# Altium schematic symbol library Passive#csv.SchLib: 35 symbols
Pins are listed as number, name and electrical type; pins without a type are passive.

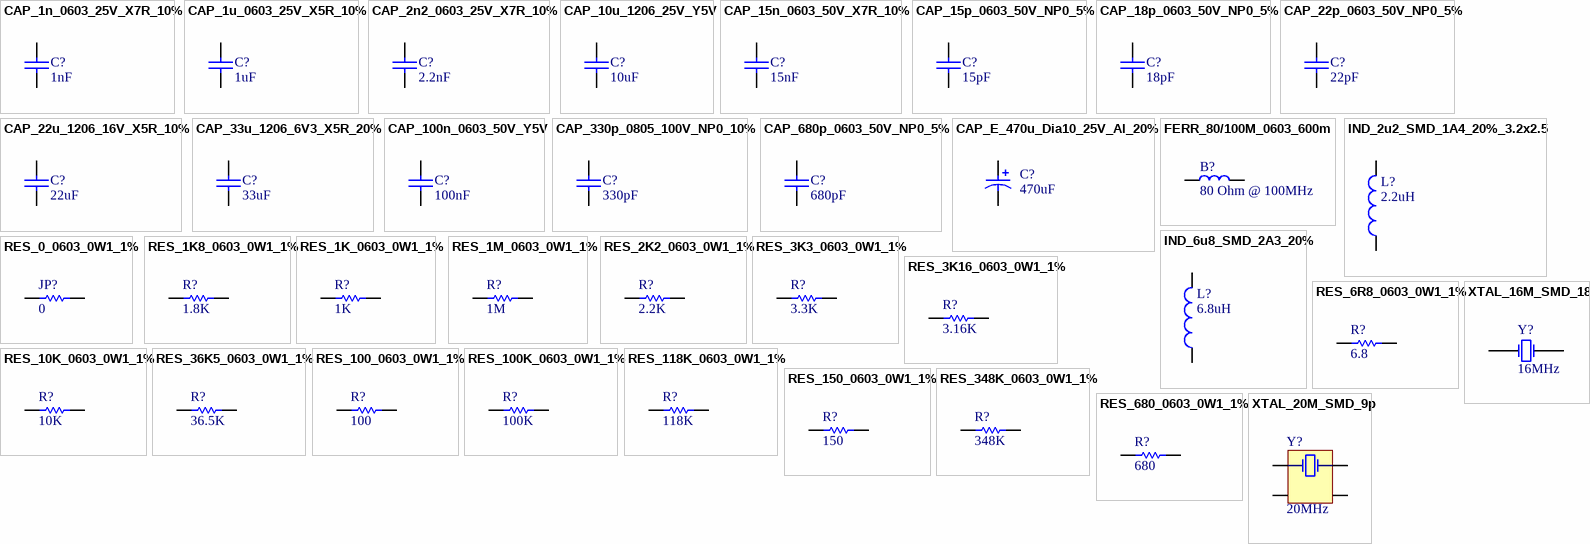
[diagram p0: symbols CAP_1n_0603_25V_X7R_10% to XTAL_20M_SMD_9p]

## CAP_1n_0603_25V_X7R_10%
designator C?, comment 1nF
CAP CER 1000PF 25V 10% X7R 0603; Manufacturer: Kemet; Manufacturer Part Number: C0603C102K3RACTU; Name: CAP_1n_0603_25V_X7R_10%; Value: 1nF; Supplier 1: Digi-Key; Supplier Part Number 1: 399-7834-1-ND
footprint CAPC1608L
pins: 1, 2

## CAP_1u_0603_25V_X5R_10%
designator C?, comment 1uF
CAP CER 1UF 25V 10% X5R 0603; Manufacturer Part Number: TMK107BJ105KA-T; Name: CAP_1u_0603_25V_X5R_10%; Value: 1uF; Supplier 1: Digi-Key; Supplier Part Number 1: 587-1248-1-ND
footprint CAPC1608L
pins: 1, 2

## CAP_2n2_0603_25V_X7R_10%
designator C?, comment 2.2nF
CAP CER 2200PF 25V 10% X7R 0603; Manufacturer: Kemet; Manufacturer Part Number: C0603C222K3RACTU; Name: CAP_2n2_0603_25V_X7R_10%; Value: 2.2nF; Supplier 1: Digi-Key; Supplier Part Number 1: 399-9040-1-ND
footprint CAPC1608L
pins: 1, 2

## CAP_10u_1206_25V_Y5V
designator C?, comment 10uF
CAP CER 10UF 25V Y5V 1206; Manufacturer Part Number: TMK316F106ZL-T; Name: CAP_10u_1206_25V_Y5V; Value: 10uF; Supplier 1: Digi-Key; Supplier Part Number 1: 587-1353-1-ND
footprint CAPC3216L
pins: 1, 2

## CAP_15n_0603_50V_X7R_10%
designator C?, comment 15nF
CAP CER 0.015UF 50V 10% X7R 0603; Manufacturer Part Number: CL10B153KB8SFNC; Name: CAP_15n_0603_50V_X7R_10%; Value: 15nF; Supplier 1: Digi-Key; Supplier Part Number 1: 1276-1967-1-ND
footprint CAPC1608L
pins: 1, 2

## CAP_15p_0603_50V_NP0_5%
designator C?, comment 15pF
CAP CER 15PF 50V 5% NP0 0603; Manufacturer: Samsung Electro-Mechanics America, Inc; Manufacturer Part Number: CL10C150JB8NCNC; Name: CAP_15p_0603_50V_NP0_5%; Value: 15pF; Supplier 1: Digi-Key; Supplier Part Number 1: 1276-2190-1-ND
footprint CAPC1608L
pins: 1, 2

## CAP_18p_0603_50V_NP0_5%
designator C?, comment 18pF
CAP CER 18PF 50V 5% NP0 0603; Manufacturer Part Number: C0603C180J5GACTU; Name: CAP_18p_0603_50V_NP0_5%; Value: 18pF; Supplier 1: Digi-Key; Supplier Part Number 1: 399-1052-1-ND
footprint CAPC1608L
pins: 1, 2

## CAP_22p_0603_50V_NP0_5%
designator C?, comment 22pF
CAP CER 22PF 50V 5% NP0 0603; Manufacturer Part Number: CL10C220JB8NCNC; Name: CAP_22p_0603_50V_NP0_5%; Value: 22pF; Supplier 1: Digi-Key; Supplier Part Number 1: 1276-2227-1-ND
footprint CAPC1608L
pins: 1, 2

## CAP_22u_1206_16V_X5R_10%
designator C?, comment 22uF
CAP CER 22UF 16V 10% X5R 1206; Manufacturer: Samsung Electro-Mechanics America, Inc; Manufacturer Part Number: CL31A226KOCLFNC; Name: CAP_22u_1206_16V_X5R_10%; Value: 22uF; Supplier 1: Digi-Key; Supplier Part Number 1: 1276-2725-1-ND
footprint CAPC3216L
pins: 1, 2

## CAP_33u_1206_6V3_X5R_20%
designator C?, comment 33uF
CAP CER 33UF 6.3V 20% X5R 1206; Manufacturer Part Number: C3216X5R0J336M130AC; Name: CAP_33u_1206_6V3_X5R_20%; Value: 33uF; Supplier 1: Digi-Key; Supplier Part Number 1: 445-4060-1-ND
footprint CAPC3216L
pins: 1, 2

## CAP_100n_0603_50V_Y5V
designator C?, comment 100nF
CAP CER 0.1UF 50V Y5V 0603; Manufacturer Part Number: CC0603ZRY5V9BB104; Name: CAP_100n_0603_50V_Y5V; Value: 100nF; Supplier 1: Digi-Key; Supplier Part Number 1: 311-1343-1-ND
footprint CAPC1608L
pins: 1, 2

## CAP_330p_0805_100V_NP0_10%
designator C?, comment 330pF
CAP CER 330PF 100V 5% NP0 0805; Manufacturer Part Number: CL21C331JCANNNC; Name: CAP_330p_0805_100V_NP0_10%; Value: 330pF; Supplier 1: Digi-Key; Supplier Part Number 1: 1276-2646-1-ND
footprint CAPC2012L
pins: 1, 2

## CAP_680p_0603_50V_NP0_5%
designator C?, comment 680pF
CAP CER 680PF 50V 5% NP0 0603; Manufacturer: Samsung Electro-Mechanics America, Inc; Manufacturer Part Number: CL10C681JB8NFNC; Name: CAP_680p_0603_50V_NP0_5%; Value: 680pF; Supplier 1: Digi-Key; Supplier Part Number 1: 1276-2329-1-ND
footprint CAPC1608L
pins: 1, 2

## CAP_E_470u_Dia10_25V_Al_20%
designator C?, comment 470uF
CAP ALUM 470UF 25V 20% SMD; Manufacturer: Nichicon; Manufacturer Part Number: UCW1E471MNL1GS; Name: CAP_E_470u_Dia10_25V_Al_20%; Value: 470uF; Supplier 1: Digi-Key; Supplier Part Number 1: 493-9424-1-ND
footprint CAP_RADIAL-CAN_SMD_M10
pins: 1, 2
1 alternate drawing of the same symbol

## FERR_80/100M_0603_600m
designator B?, comment 80 Ohm @ 100MHz
FERRITE CHIP 80 OHM 600MA 0603; Manufacturer: Samsung Electro-Mechanics America, Inc; Manufacturer Part Number: CIM10U800NC; Name: FERR_80/100M_0603_600m; Value: 80 Ohm @ 100MHz; Supplier 1: Digi-Key; Supplier Part Number 1: 1276-6386-1-ND
footprint INDC1608L
pins: 1, 2

## IND_2u2_SMD_1A4_20%_3.2x2.5
designator L?, comment 2.2uH
INDUCTOR 2.2UH 1.4A 20% SMD; Manufacturer: TDK Corporation; Manufacturer Part Number: FLF3215T-2R2M; Name: IND_2u2_SMD_1A4_20%_3.2x2.5; Value: 2.2uH; Supplier 1: Digi-Key; Supplier Part Number 1: 445-4845-6-ND
footprint X-TDK_FLF3215
pins: 1, 2

## IND_6u8_SMD_2A3_20%
designator L?, comment 6.8uH
INDUCTOR POWER 6.8UF 2300MA SMD; Manufacturer: Taiyo Yuden; Manufacturer Part Number: NRS5030T6R8MMGJ; Name: IND_6u8_SMD_2A3_20%; Value: 6.8uH; Supplier 1: Digi-Key; Supplier Part Number 1: 587-3462-1-ND
footprint X-TAIY-NRS5030
pins: 1, 2

## RES_0_0603_0W1_1%
designator JP?, comment 0
RES 0.0 OHM 1/10W JUMP 0603; Manufacturer Part Number: RC1608J000CS; Name: RES_0_0603_0W1_1%; Value: 0; Supplier 1: Digi-Key; Supplier Part Number 1: 1276-3510-1-ND
footprint RESC1608L
pins: 1, 2

## RES_1K8_0603_0W1_1%
designator R?, comment 1.8K
RES 1.8K OHM 1/10W 1% 0603; Name: RES_1K8_0603_0W1_1%; Value: 1.8K
footprint RESC1608L
pins: 1, 2

## RES_1K_0603_0W1_1%
designator R?, comment 1K
RES 1K OHM 1/10W 5% 0603; Manufacturer Part Number: RMCF0603JT1K00; Name: RES_1K_0603_0W1_1%; Value: 1K; Supplier 1: Digi-Key; Supplier Part Number 1: RMCF0603JT1K00CT-ND
footprint RESC1608L
pins: 1, 2

## RES_1M_0603_0W1_1%
designator R?, comment 1M
RES 1.00M OHM 1/10W 1% 0603 SMD; Manufacturer: Yageo; Manufacturer Part Number: RC0603FR-071ML; Name: RES_1M_0603_0W1_1%; Value: 1M; Supplier 1: Digi-Key; Supplier Part Number 1: 311-1.00MHRCT-ND
footprint RESC1608L
pins: 1, 2

## RES_2K2_0603_0W1_1%
designator R?, comment 2.2K
RES 2.2K OHM 1/10W 1% 0603 SMD; Manufacturer: Rohm Semiconductor; Manufacturer Part Number: MCR03ERTF2201; Name: RES_2K2_0603_0W1_1%; Value: 2.2K; Supplier 1: Digi-Key; Supplier Part Number 1: RHM2.20KCFCT-ND
footprint RESC1608L
pins: 1, 2

## RES_3K3_0603_0W1_1%
designator R?, comment 3.3K
RES 3.3K OHM 1/10W 1% 0603 SMD; Manufacturer: Rohm Semiconductor; Manufacturer Part Number: MCR03ERTF3301; Name: RES_3K3_0603_0W1_1%; Value: 3.3K; Supplier 1: Digi-Key; Supplier Part Number 1: RHM3.30KCFCT-ND
footprint RESC1608L
pins: 1, 2

## RES_3K16_0603_0W1_1%
designator R?, comment 3.16K
RES 3.16K OHM 1/10W 1% 0603; Manufacturer Part Number: RMCF0603FT3K16; Name: RES_3K16_0603_0W1_1%; Value: 3.16K; Supplier 1: Digi-Key; Supplier Part Number 1: RMCF0603FT3K16CT-ND
footprint RESC1608L
pins: 1, 2

## RES_6R8_0603_0W1_1%
designator R?, comment 6.8
RES 6.8 OHM 1/10W 1% 0603; Manufacturer: Stackpole Electronics Inc; Manufacturer Part Number: RMCF0603FT6R80; Name: RES_6R8_0603_0W1_1%; Value: 6.8; Supplier 1: Digi-Key; Supplier Part Number 1: RMCF0603FT6R80CT-ND
footprint RESC1608L
pins: 1, 2

## RES_10K_0603_0W1_1%
designator R?, comment 10K
RES 10K OHM 1/10W 5% 0603; Manufacturer Part Number: RC1608J103CS; Name: RES_10K_0603_0W1_1%; Value: 10K; Supplier 1: Digi-Key; Supplier Part Number 1: 1276-5086-1-ND
footprint RESC1608L
pins: 1, 2

## RES_36K5_0603_0W1_1%
designator R?, comment 36.5K
RES 36.5K OHM 1/10W 1% 0603; Manufacturer Part Number: RMCF0603FT36K5; Name: RES_36K5_0603_0W1_1%; Value: 36.5K; Supplier 1: Digi-Key; Supplier Part Number 1: RMCF0603FT36K5CT-ND
footprint RESC1608L
pins: 1, 2

## RES_100_0603_0W1_1%
designator R?, comment 100
RES 100 OHM 1/10W 5% 0603 SMD; Manufacturer Part Number: RC0603JR-07100RL; Name: RES_100_0603_0W1_1%; Value: 100; Supplier 1: Digi-Key; Supplier Part Number 1: 311-100GRCT-ND
footprint RESC1608L
pins: 1, 2

## RES_100K_0603_0W1_1%
designator R?, comment 100K
RES 100K OHM 1/10W 1% 0603 SMD; Manufacturer: Rohm Semiconductor; Manufacturer Part Number: MCR03ERTF1003; Name: RES_100K_0603_0W1_1%; Value: 100K; Supplier 1: Digi-Key; Supplier Part Number 1: RHM100KCFCT-ND
footprint RESC1608L
pins: 1, 2

## RES_118K_0603_0W1_1%
designator R?, comment 118K
RES 118K OHM 1/10W 1% 0603; Manufacturer Part Number: RMCF0603FT118K; Name: RES_118K_0603_0W1_1%; Value: 118K; Supplier 1: Digi-Key; Supplier Part Number 1: RMCF0603FT118KCT-ND
footprint RESC1608L
pins: 1, 2

## RES_150_0603_0W1_1%
designator R?, comment 150
RES 150 OHM 1/10W 1% 0603 SMD; Manufacturer: Rohm Semiconductor; Manufacturer Part Number: MCR03ERTF1500; Name: RES_150_0603_0W1_1%; Value: 150; Supplier 1: Digi-Key; Supplier Part Number 1: RHM150CFCT-ND
footprint RESC1608L
pins: 1, 2

## RES_348K_0603_0W1_1%
designator R?, comment 348K
RES 348K OHM 1/10W 1% 0603; Manufacturer: Stackpole Electronics Inc; Manufacturer Part Number: RMCF0603FT348K; Name: RES_348K_0603_0W1_1%; Value: 348K; Supplier 1: Digi-Key; Supplier Part Number 1: RMCF0603FT348KCT-ND
footprint RESC1608L
pins: 1, 2

## RES_680_0603_0W1_1%
designator R?, comment 680
RES 680 OHM 1/10W 1% 0603 SMD; Manufacturer: Rohm Semiconductor; Manufacturer Part Number: MCR03ERTF6800; Name: RES_680_0603_0W1_1%; Value: 680; Supplier 1: Digi-Key; Supplier Part Number 1: RHM680CFCT-ND
footprint RESC1608L
pins: 1, 2

## XTAL_16M_SMD_18p
designator Y?, comment 16MHz
CRYSTAL 16MHZ 18PF SMD; Manufacturer: Abracon Corporation; Manufacturer Part Number: ABLS-16.000MHZ-B4-T; Name: XTAL_16M_SMD_18p; Drawn By: Juan I Carrano; Value: 16MHz; Supplier 1: Digi-Key; Supplier Part Number 1: 535-10226-1-ND
footprint X-ABRA_ABLS
pins: 1, 2

## XTAL_20M_SMD_9p
designator Y?, comment 20MHz
CRYSTAL 20MHZ 9PF SMD; Manufacturer: EPSON; Manufacturer Part Number: TSX-3225 20.0000MF20G-AC3; Name: XTAL_20M_SMD_9p; Drawn By: Juan I Carrano; Value: 20MHz; Supplier 1: Digi-Key; Supplier Part Number 1: SER3629CT-ND
footprint X-EPSO_TSX-3225
pins: 1, 2, 3, 4